# Altium schematic symbol library Molex Ultrafit 3x1 - 172310-1303.SchLib: 1 symbol
Pins are listed as number, name and electrical type; pins without a type are passive.

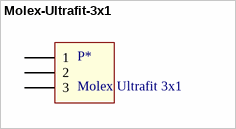
[diagram p0: symbol Molex-Ultrafit-3x1]

## Molex-Ultrafit-3x1
designator P*, comment Molex Ultrafit 3x1
Molex Ultrafit 3x1 - 172310-1303
footprint Molex-Ultrafit-3x1 (Molex Ultrafit 3x1 - 172310-1303)
pins: 1, 2, 3